# EAGLE library part 20021521-00010T4LF (library teatotler)
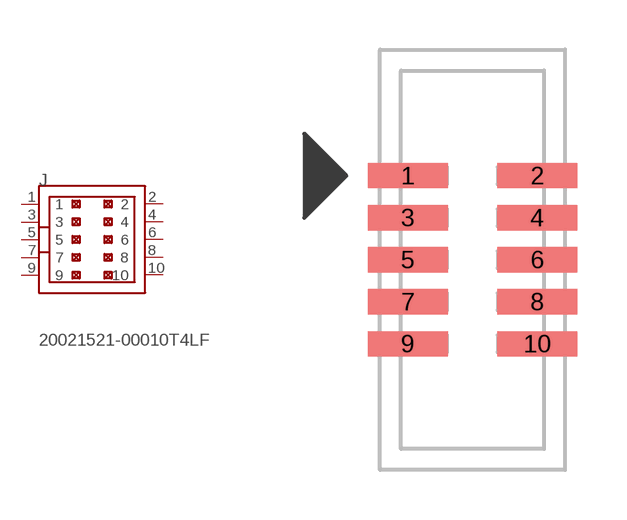
[diagram p0: symbol with the pads of HEADER_2X5_50MIL_SHROUDED_KEYED; footprint HEADER_2X5_50MIL_SHROUDED_KEYED]

Designator prefix J

## 20021521-00010T4LF (COST_X1: 1.43; COST_X10: 1.253; COST_X100: 1.0813; COST_X500: 0.8847; DESCRIPTION: Header, 2x10, 0.050 mil pitch, SMT, shrouded, keyed; DISPLAY: 0.05 pitch; DISTRIBUTOR: Digikey; DIST_PART_NO: 609-6534-ND; MFG: Amphenol; MFG_PART_NO: 20021521-00010T4LF; PACKAGE: SMT)  [HEADER_2X5_50MIL_SHROUDED_KEYED]
1  1
2  2
3  3
4  4
5  5
6  6
7  7
8  8
9  9
10  10

## Footprint HEADER_2X5_50MIL_SHROUDED_KEYED (pad centres in mm)
smd 2.413 x 0.762: 1 -1.956,2.54; 2 1.956,2.54; 3 -1.956,1.27; 4 1.956,1.27; 5 -1.956,0; 6 1.956,0; 7 -1.956,-1.27; 8 1.956,-1.27; 9 -1.956,-2.54; 10 1.956,-2.54